# Altium footprint library TC33X-1.PcbLib: 1 footprints
Each footprint in its own frame and in the unit in brackets; x right, y up, seen from the top. Pads: shape width x height; smd on the part's side, far side on the other; paste and mask are expansions set on the pad; w line width, h text height; cw(c..) or ccw(c..) is an arc to the next point about the centre after c.
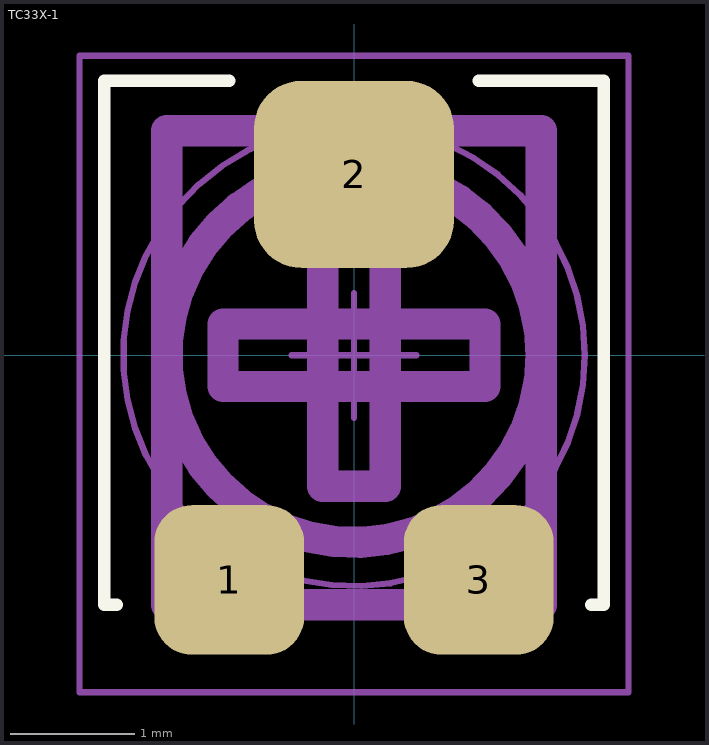
[diagram p0: the footprint, top view; thin cyan lines are the x and y axes]

## TC33X-1 [mm] "TC33 - 3 mm SMD Trimpot® Trimming Potentiometer"
height 1.2
pads (3):
  rrect50% 1.2x1.2 smd: 1(-1,-1.8) 3(1,-1.8)
  rrect50% 1.6x1.5 smd: 2(0,1.45)
Top Overlay:
  lines w0.1: -1.9,-2 -2,-2 -2,2.2 -1,2.2 ; 1,2.2 2,2.2 2,-2 1.9,-2
Top Assembly:
  circle w0.25: c0,0 r1.5
  lines w0.25: -1.5,-2 1.5,-2 1.5,1.8 -1.5,1.8 -1.5,-2 ; -1.05,-0.25 1.05,-0.25 1.05,0.25 -1.05,0.25 -1.05,-0.25 ; -0.25,-1.05 0.25,-1.05 0.25,1.05 -0.25,1.05 -0.25,-1.05
  text ".Designator" at -3.5,2.6 h1.5
Top Courtyard:
  circle w0.05: c0,0 r0.25
  circle w0.05: c0,0 r1.85
  lines w0.05: -0.5,0 0.5,0 ; 0,-0.5 0,0.5 ; -2.2,-2.7 -2.2,2.4 2.2,2.4 2.2,-2.7 -2.2,-2.7
3D body "TC-33X-1.stp": height 1.13, standoff -0.03, extent -1.8,-1.963 1.8,1.9